# EAGLE library part WE-UOST_EE/16/8/5 (library Wurth_Power Magnetics_WE-UOST)
WE-UOST Universal Offline Standard Transformer Characteristics Input voltage range 85–265 VAC (125–375 VDC) Output power 12–16 W Designed to comply with EN61558-2-16: Reinforced insulation Creepage and clearance distance >6.5 mm Insulation test voltage 4 kVAC For SMD assembly Applications SMPS with power up to 16 W Auxiliary power supplies Usable with all low power AC/DC ICs like LT3798/99, UCC28610, ViPER & Tiny/Link Switch <https://katalog.we-online.com/media/images/v2/o14889v209%20Family_WE-UOST_Universal.jpg> Details see: https://katalog.we-online.com/en/pbs/WE-UOST Updated by Yingchun,Shan 2019-08-26 2019 (C) Wurth Elektronik
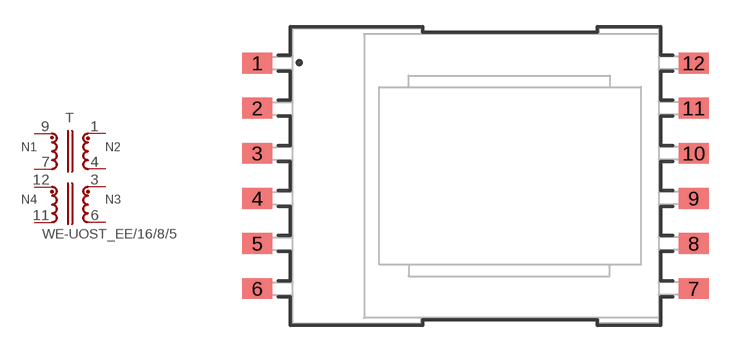
[diagram p0: symbol with the pads of WE-UOST; footprint WE-UOST]

Designator prefix T

## WE-UOST_EE/16/8/5_760871113_SCH1 (DATASHEET-URL: https://katalog.we-online.com/pbs/datasheet/760871113.pdf; FSWITCH: 60-150kHz; IO2: 1.25A; ISAT: 0.8A; L: 1310uH; LSMIN: 40uH; N: 140 : 6 : 6 : 16; PART-NUMBER: 760871113; RDC1: 3000mOhm; RDC2: 25mOhm; RDC3: 25mOhm; RDC4: 450mOhm; VALUE: 5V 1.25A; VAUX: 14V; VI: 85-265V(AC); VO2: 5V), WE-UOST_EE/16/8/5_760871135_SCH1 (DATASHEET-URL: https://katalog.we-online.com/pbs/datasheet/760871135.pdf; FSWITCH: 60-150kHz; IO2: 0.55A; ISAT: 0.8A; L: 1250uH; LSMIN: 53uH; N: 136 : 13 : 13 : 15; PART-NUMBER: 760871135; RDC1: 2920mOhm; RDC2: 92mOhm; RDC3: 92mOhm; RDC4: 400mOhm; VALUE: 12V 0.55A; VAUX: 14V; VI: 85-265V(AC); VO2: 12V), WE-UOST_EE/16/8/5_760871142_SCH1 (DATASHEET-URL: https://katalog.we-online.com/pbs/datasheet/760871142.pdf; FSWITCH: 60-150kHz; IO2: 0.28A; ISAT: 0.8A; L: 1250uH; LSMIN: 40uH; N: 140 : 27 : 27 : 16; PART-NUMBER: 760871142; RDC1: 3000mOhm; RDC2: 620mOhm; RDC3: 620mOhm; RDC4: 450mOhm; VALUE: 24V 0.28A; VAUX: 14V; VI: 85-265V(AC); VO2: 24V), WE-UOST_EE/16/8/5_760875112_SCH1 (DATASHEET-URL: https://katalog.we-online.com/pbs/datasheet/760875112.pdf; FSWITCH: 60-150kHz; IO2: 1.5A; ISAT: 0.8A; L: 1500uH; LSMIN: 50uH; N: 160 : 7 : 7 : 18; PART-NUMBER: 760875112; RDC1: 4200mOhm; RDC2: 33.5mOhm; RDC3: 33.5mOhm; RDC4: 400mOhm; VALUE: 5V 1.5A; VAUX: 14V; VI: 195-265V(AC); VO2: 5V), WE-UOST_EE/16/8/5_760875131_SCH1 (DATASHEET-URL: https://katalog.we-online.com/pbs/datasheet/760875131.pdf; FSWITCH: 60-150kHz; IO2: 0.65A; ISAT: 0.8A; L: 1500uH; LSMIN: 60uH; N: 160 : 14 : 14 : 16; PART-NUMBER: 760875131; RDC1: 4200mOhm; RDC2: 140mOhm; RDC3: 140mOhm; RDC4: 450mOhm; VALUE: 12V 0.65A; VAUX: 14V; VI: 85-265V(AC); VO2: 12V)  [WE-UOST]
1  8  pas
3  6  pas
4  7  pas
6  5  pas
7  2  pas
9  1  pas
11  4  pas
12  3  pas

## WE-UOST_EE/16/8/5_760871534_SCH2 (DATASHEET-URL: https://katalog.we-online.com/pbs/datasheet/760871534.pdf; FSWITCH: 60-150kHz; IO2: 1.25A; ISAT: 0.8A; L: 1250uH; LSMIN: 35uH; N: 140 : 9 : 7 : 18; PART-NUMBER: 760871534; RDC1: 3000mOhm; RDC2: 190mOhm; RDC3: 30mOhm; RDC4: 400mOhm; VALUE: 12V 0.55A; VAUX: 14V; VI: 85-265V(AC); VO2: 5V), WE-UOST_EE/16/8/5_760871543_SCH2 (DATASHEET-URL: https://katalog.we-online.com/pbs/datasheet/760871543.pdf; FSWITCH: 60-150kHz; IO2: 1.15A; ISAT: 0.8A; L: 1310uH; LSMIN: 35uH; N: 140 : 22 : 6 : 16; PART-NUMBER: 760871543; RDC1: 3000mOhm; RDC2: 450mOhm; RDC3: 25mOhm; RDC4: 400mOhm; VALUE: 24V 0.3A; VAUX: 14V; VI: 85-265V(AC); VO2: 5V), WE-UOST_EE/16/8/5_760875532_SCH2 (DATASHEET-URL: https://katalog.we-online.com/pbs/datasheet/760875532.pdf; FSWITCH: 60-150kHz; IO2: 1.36A; ISAT: 0.8A; L: 1500uH; LSMIN: 60uH; N: 160 : 10 : 7 : 16; PART-NUMBER: 760875532; RDC1: 6500mOhm; RDC2: 86mOhm; RDC3: 24mOhm; RDC4: 370mOhm; VALUE: 12V 0.7A; VAUX: 14V; VI: 85-265V(AC); VO2: 5V)  [WE-UOST]
1  8  pas
2  7  pas
3  6  pas
4  6  pas
5  5  pas
6  5  pas
7  2  pas
9  1  pas
11  4  pas
12  3  pas

## Footprint WE-UOST (pad centres in mm)
WE-UOST Universal Offline Standard Transformers EE16/8/5 THT12 Pin
smd 1.7 x 1.17: 1 -14.205,6.35; 2 -14.205,3.81; 3 -14.205,1.27; 4 -14.205,-1.27; 5 -14.205,-3.81; 6 -14.205,-6.35; 7 10.325,-6.35; 8 10.325,-3.81; 9 10.325,-1.27; 10 10.325,1.27; 11 10.325,3.81; 12 10.325,6.35